# Altium footprint library 62900416021.PcbLib: 1 footprints
Each footprint in its own frame and in the unit in brackets; x right, y up, seen from the top. Pads: shape width x height; smd on the part's side, far side on the other; paste and mask are expansions set on the pad; w line width, h text height; cw(c..) or ccw(c..) is an arc to the next point about the centre after c.
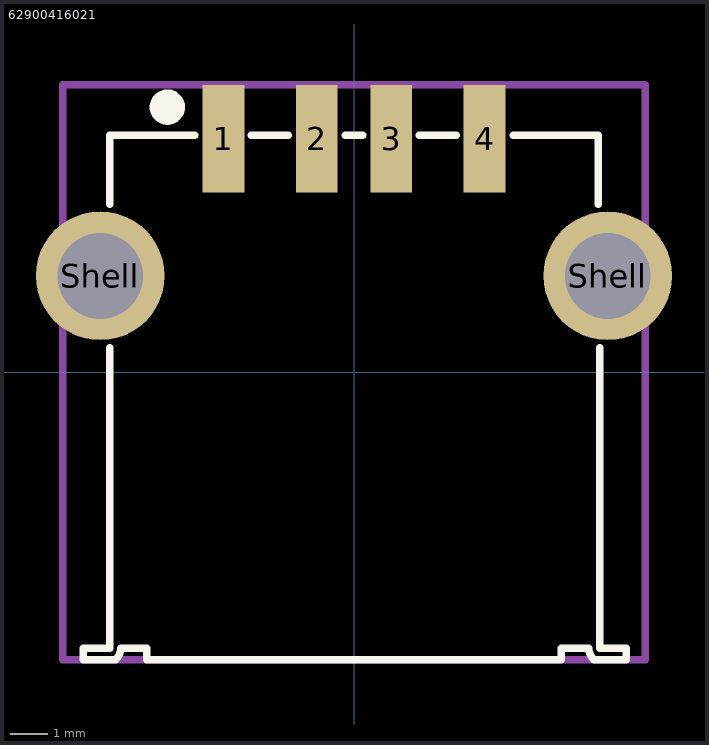
[diagram p0: the footprint, top view; thin cyan lines are the x and y axes]

## 62900416021 [mm] "USB 2.0 SMT Type A Horizontal"
height 7.12
pads (6):
  rect 1.12x2.88 smd: 1(-3.5,6.25) 2(-1,6.25) 3(1,6.25) 4(3.5,6.25)
  round 3.45 hole 2.3: Shell(-6.8,2.58) Shell(6.8,2.58)
Top Overlay:
  circle w0.5: c-5,7.1 r0.224
  lines w0.2: -6.55,0.66 -6.55,-7.4 -7.25,-7.4 -7.25,-7.7 -6.39,-7.7 ; -6.55,4.5 -6.55,6.35 -4.26,6.35 ; -6.388,-7.702 ccw(c-6.65,-7.4) -6.25,-7.4 -5.55,-7.4 -5.55,-7.7 5.55,-7.7 5.55,-7.4 6.29,-7.4 ccw(c6.69,-7.4) 6.428,-7.702 ; -2.75,6.35 -1.76,6.35 ; -0.24,6.35 0.24,6.35 ; 1.75,6.35 2.74,6.35 ; 4.26,6.35 6.55,6.35 6.55,4.5 ; 6.43,-7.7 7.29,-7.7 7.29,-7.4 6.59,-7.4 6.59,0.66
Mechanical 13:
  lines w0.2: -7.8,-7.7 7.8,-7.7 7.8,7.7 -7.8,7.7 -7.8,-7.7
3D body "62900416021.stp": height 7.81, standoff -3.89, extent -7.81,-7.7 7.81,7.705